# Altium schematic symbol library WCAP-AS5H_4X5.5.SchLib: 1 symbol
Pins are listed as number, name and electrical type; pins without a type are passive.

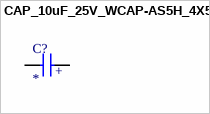
[diagram p0: symbol CAP_10uF_25V_WCAP-AS5H_4X5.5]

## CAP_10uF_25V_WCAP-AS5H_4X5.5
designator C?
CAP ALUM 10UF 20% 25V SMD; MF: WÃ¼rth Elektronik; MP: 865230440002; SnapEDA_Link: https://www.snapeda.com/parts/865230440002/W%25C3%25BCrth+Elektronik+Midcom/view-part/?ref=snap; Package: Radial WÃ¼rth Elektronik; Value: *; Check_prices: https://www.snapeda.com/parts/865230440002/W%25C3%25BCrth+Elektronik+Midcom/view-part/?ref=eda
footprint WCAP-AS5H_4X5.5(DXL)
pins: 1 POS, 2 NEG
text: +